# EAGLE library part FONA-800-BREAKOUT (library GlacTracker)
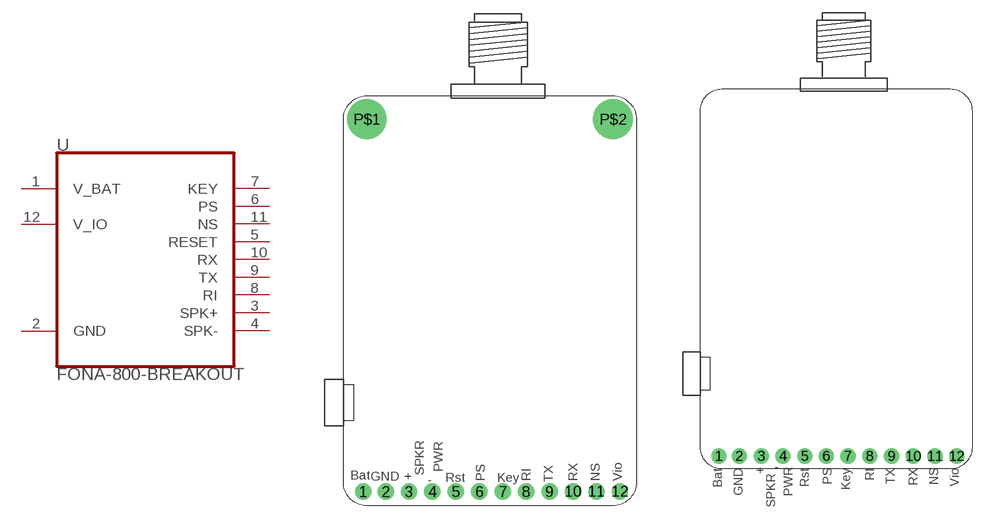
[diagram p7: symbol with the pads of FONA-800-BREAKOUT; footprints FONA-800-BREAKOUT, FONA-800-BREAKOUT-NH]

Designator prefix U

## FONA-800-BREAKOUT  [FONA-800-BREAKOUT]
1  V_BAT
2  GND
3  SPK+
4  SPK-
5  RESET
6  PS
7  KEY
8  RI
9  TX
10  RX
11  NS
12  V_IO

## FONA-800-BREAKOUTNOHOLE  [FONA-800-BREAKOUT-NH]
Pads as for FONA-800-BREAKOUT

## Footprint FONA-800-BREAKOUT (pad centres in mm)
drill 1.016 pad 1.778: 1 2.159,1.524; 2 4.572,1.524; 3 7.112,1.524; 4 9.652,1.524; 5 12.192,1.524; 6 14.732,1.524; 7 17.272,1.524; 8 19.812,1.524; 9 22.352,1.524; 10 24.892,1.524; 11 27.432,1.524; 12 29.972,1.524
drill 3.302: P$1 2.54,41.91; P$2 29.21,41.91

## Footprint FONA-800-BREAKOUT-NH (pad centres in mm)
drill 1.016 pad 1.778: 1 2.159,1.524; 2 4.572,1.524; 3 7.112,1.524; 4 9.652,1.524; 5 12.192,1.524; 6 14.732,1.524; 7 17.272,1.524; 8 19.812,1.524; 9 22.352,1.524; 10 24.892,1.524; 11 27.432,1.524; 12 29.972,1.524